# EAGLE library part PIC18F4550ML (library Microchip)
44-Pin, High Performance, Enhanced Flash, USB Microcontroller
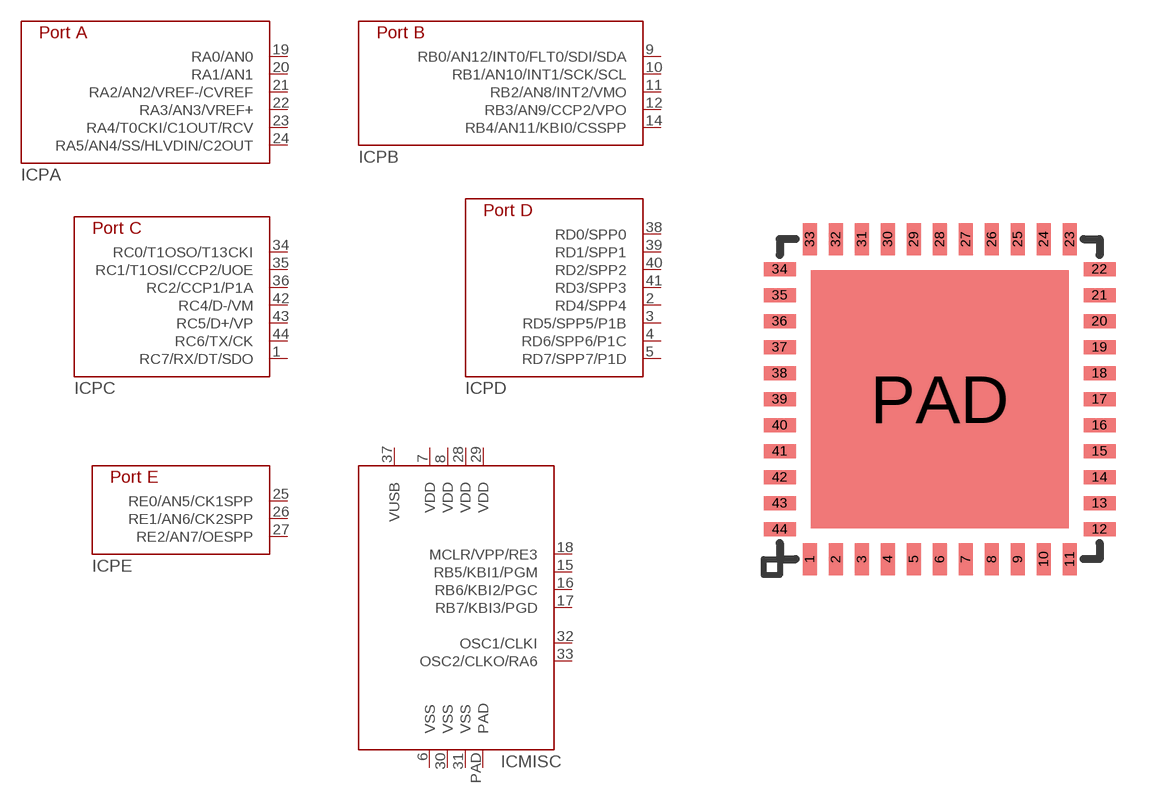
[diagram p11: symbol with the pads of QFN44-ML; footprint QFN44-ML]

Designator prefix IC; gates PA=PIC18F4550-PA PB=PIC18F4550-PB PC=PIC18F4550-PC PD=PIC18F4550-PD PE=PIC18F4550-PE MISC=PIC18F4550ML-MISC

## PIC18F4550ML  [QFN44-ML]
1  PC:RC7/RX/DT/SDO
2  PD:RD4/SPP4
3  PD:RD5/SPP5/P1B
4  PD:RD6/SPP6/P1C
5  PD:RD7/SPP7/P1D
6  MISC:VSS
7  MISC:VDD
8  MISC:VDD
9  PB:RB0/AN12/INT0/FLT0/SDI/SDA
10  PB:RB1/AN10/INT1/SCK/SCL
11  PB:RB2/AN8/INT2/VMO
12  PB:RB3/AN9/CCP2/VPO
14  PB:RB4/AN11/KBI0/CSSPP
15  MISC:RB5/KBI1/PGM
16  MISC:RB6/KBI2/PGC
17  MISC:RB7/KBI3/PGD
18  MISC:MCLR/VPP/RE3
19  PA:RA0/AN0
20  PA:RA1/AN1
21  PA:RA2/AN2/VREF-/CVREF
22  PA:RA3/AN3/VREF+
23  PA:RA4/T0CKI/C1OUT/RCV
24  PA:RA5/AN4/SS/HLVDIN/C2OUT
25  PE:RE0/AN5/CK1SPP
26  PE:RE1/AN6/CK2SPP
27  PE:RE2/AN7/OESPP
28  MISC:VDD
29  MISC:VDD
30  MISC:VSS
31  MISC:VSS
32  MISC:OSC1/CLKI
33  MISC:OSC2/CLKO/RA6
34  PC:RC0/T1OSO/T13CKI
35  PC:RC1/T1OSI/CCP2/UOE
36  PC:RC2/CCP1/P1A
37  MISC:VUSB
38  PD:RD0/SPP0
39  PD:RD1/SPP1
40  PD:RD2/SPP2
41  PD:RD3/SPP3
42  PC:RC4/D-/VM
43  PC:RC5/D+/VP
44  PC:RC6/TX/CK
PAD  MISC:PAD

## Footprint QFN44-ML (pad centres in mm)
44 Lead Plastic Quad Flat, No Lead Package (QFN), Microchip package ML
smd 0.35 x 0.8: 1 -3.25,-4; 2 -2.6,-4; 3 -1.95,-4; 4 -1.3,-4; 5 -0.65,-4; 6 0,-4; 7 0.65,-4; 8 1.3,-4; 9 1.95,-4; 10 2.6,-4; 11 3.25,-4; 23 3.25,4; 24 2.6,4; 25 1.95,4; 26 1.3,4; 27 0.65,4; 28 0,4; 29 -0.65,4; 30 -1.3,4; 31 -1.95,4; 32 -2.6,4; 33 -3.25,4
smd 0.8 x 0.35: 12 4,-3.25; 13 4,-2.6; 14 4,-1.95; 15 4,-1.3; 16 4,-0.65; 17 4,0; 18 4,0.65; 19 4,1.3; 20 4,1.95; 21 4,2.6; 22 4,3.25; 34 -4,3.25; 35 -4,2.6; 36 -4,1.95; 37 -4,1.3; 38 -4,0.65; 39 -4,0; 40 -4,-0.65; 41 -4,-1.3; 42 -4,-1.95; 43 -4,-2.6; 44 -4,-3.25
smd 6.45 x 6.45: PAD 0,0